# Altium integrated library IR.IntLib: 3 symbols
Pins are listed as number, name and electrical type; pins without a type are passive.

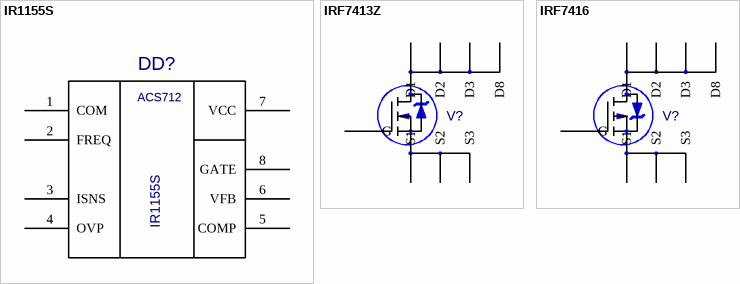
[diagram p0: symbols IR1155S to IRF7416]

## IR1155S
designator DD?
Value: *
footprint SO-8
pins: 1 COM, 2 FREQ, 3 ISNS, 4 OVP, 5 COMP, 6 VFB, 7 VCC, 8 GATE
text: ACS712

## IRF7413Z
designator V?  (value not drawn)
Value: {Value}
footprint SO-8 SINGLE
pins: 1 S1, 2 S2, 3 S3, 4 G, 5 D1, 6 D2, 7 D3, 8 D8

## IRF7416
designator V?  (value not drawn)
Value: {Value}
footprint SO-8 SINGLE
pins: 1 S1, 2 S2, 3 S3, 4 G, 5 D1, 6 D2, 7 D3, 8 D8